# Altium footprint library S101031MS02Q.PcbLib: 1 footprints
Each footprint in its own frame and in the unit in brackets; x right, y up, seen from the top. Pads: shape width x height; smd on the part's side, far side on the other; paste and mask are expansions set on the pad; w line width, h text height; cw(c..) or ccw(c..) is an arc to the next point about the centre after c.
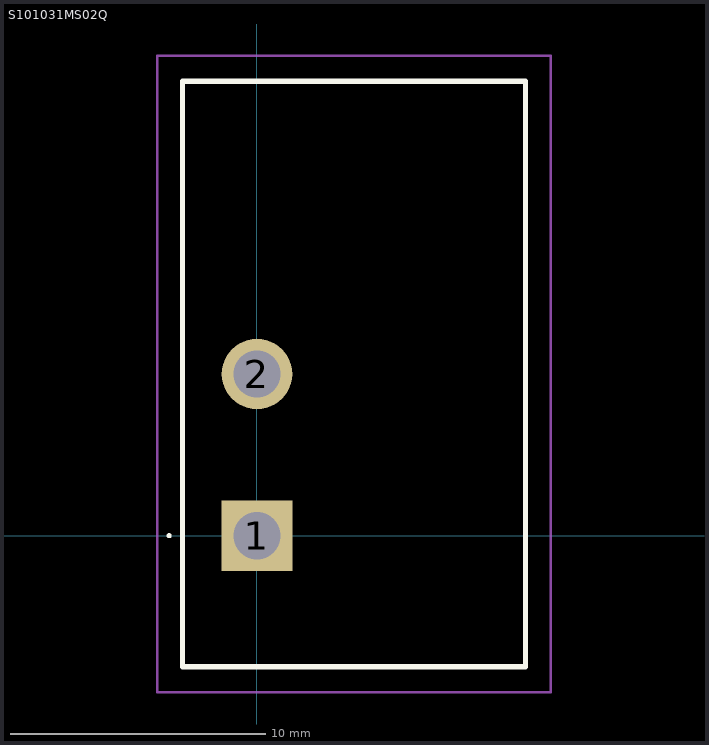
[diagram p0: the footprint, top view; thin cyan lines are the x and y axes]

## S101031MS02Q [mm]
pads (2):
  rect 2.775x2.775 hole 1.85: 1(0,0)
  round 2.775 hole 1.85: 2(0,6.35)
Top Overlay:
  lines w0.1: -3.5,0 cw(c-3.45,0) -3.4,0 ; -3.5,0 -3.5,0 ; -3.5,0 ccw(c-3.45,0) -3.4,0 ; -3.4,0 -3.4,0
  lines w0.2: -2.92,-5.145 10.54,-5.145 10.54,17.845 -2.92,17.845 -2.92,-5.145
Mechanical 15:
  lines w0.1: -2.92,-5.145 10.54,-5.145 10.54,17.845 -2.92,17.845 -2.92,-5.145
Mechanical 20:
  lines w0.1: -3.92,-6.145 11.54,-6.145 11.54,18.845 -3.92,18.845 -3.92,-6.145